# EAGLE library part M24C02 (library SUCHAI)
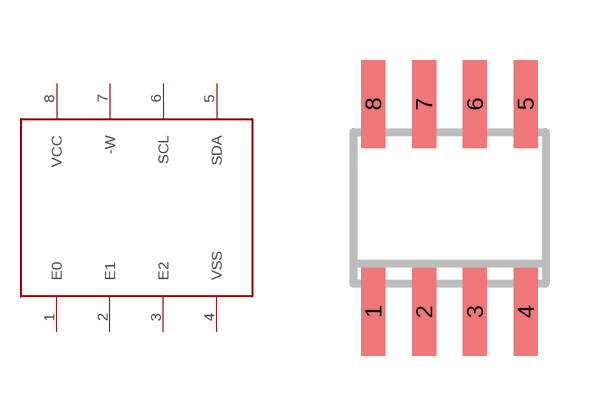
[diagram p10: symbol with the pads of SOIC8; footprint SOIC8]

Designator prefix -

## M24C02  [SOIC8]
1  E0
2  E1
3  E2
4  VSS
5  SDA
6  SCL
7  -W
8  VCC

## Footprint SOIC8 (pad centres in mm)
Small Outline IC SOIC8 Used in ST's M24C02 memory Note: Don't know if this pas pattern is also for SOIC8 Narrow
smd 0.6 x 2.2: 1 -1.905,-2.6; 2 -0.635,-2.6; 3 0.635,-2.6; 4 1.905,-2.6; 5 1.905,2.6; 6 0.635,2.6; 7 -0.635,2.6; 8 -1.905,2.6